# Altium footprint library STM32KIT.PcbLib: 1 footprints
Each footprint in its own frame and in the unit in brackets; x right, y up, seen from the top. Pads: shape width x height; smd on the part's side, far side on the other; paste and mask are expansions set on the pad; w line width, h text height; cw(c..) or ccw(c..) is an arc to the next point about the centre after c.
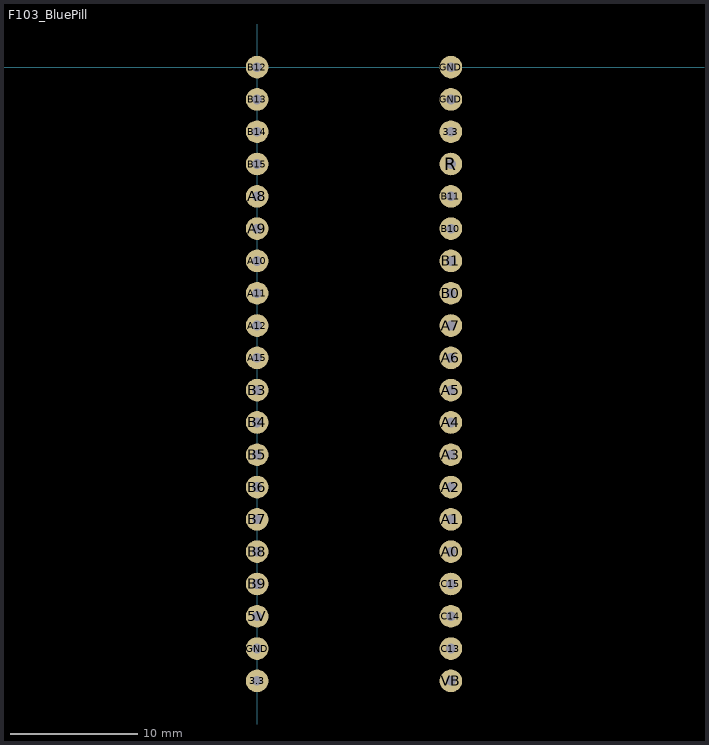
[diagram p0: the footprint, top view; thin cyan lines are the x and y axes]

## F103_BluePill [mil]
pads (40):
  round 70 hole 30: 3.3(0,-1900) 3.3(600,-200) 5V(0,-1700) A0(600,-1500) A1(600,-1400) A2(600,-1300) A3(600,-1200) A4(600,-1100) A5(600,-1000) A6(600,-900) A7(600,-800) A8(0,-400) A9(0,-500) A10(0,-600) A11(0,-700) A12(0,-800) A15(0,-900) B0(600,-700) B1(600,-600) B3(0,-1000) B4(0,-1100) B5(0,-1200) B6(0,-1300) B7(0,-1400) B8(0,-1500) B9(0,-1600) B10(600,-500) B11(600,-400) B12(0,0) B13(0,-100) B14(0,-200) B15(0,-300) C13(600,-1800) C14(600,-1700) C15(600,-1600) GND(0,-1800) GND(600,-100) GND(600,0) R(600,-300) VB(600,-1900)
3D body "STM32F103C8T6_Blue_Pill v6.step": height 584.65, standoff -134.65, extent -150,-2131.07 750,135.07